# Altium footprint library ultrasounic.PcbLib: 41 footprints (part 1 of 3)
Each footprint in its own frame and in the unit in brackets; x right, y up, seen from the top. Pads: shape width x height; smd on the part's side, far side on the other; paste and mask are expansions set on the pad; w line width, h text height; cw(c..) or ccw(c..) is an arc to the next point about the centre after c.
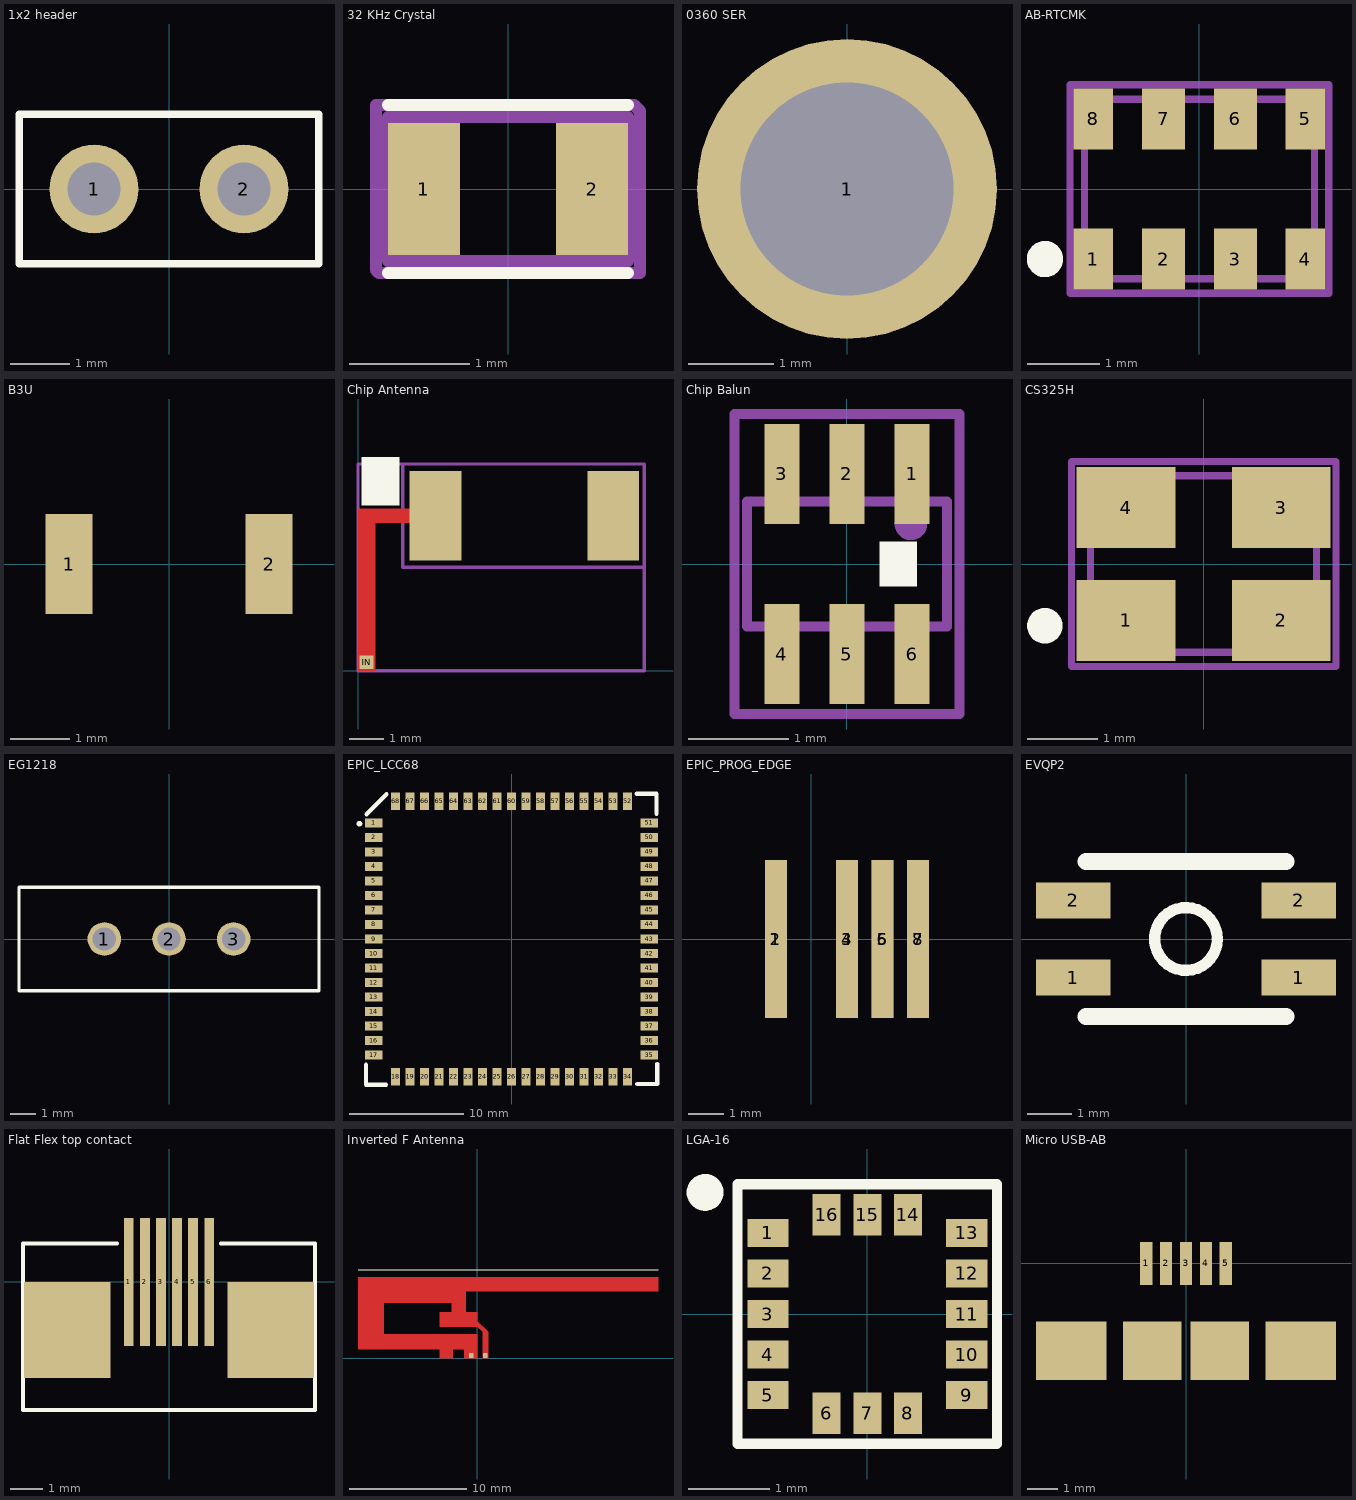
[diagram p0: the footprints below, top view; thin cyan lines are the x and y axes]

## 1x2 header [mm] "1x2 header, 100 mils"
pads (2):
  round 1.5 hole 0.9: 1(-1.27,0) 2(1.27,0)
Top Overlay:
  lines w0.127: -2.54,-1.27 -2.54,1.27 2.54,1.27 2.54,-1.27 -2.54,-1.27
3D body: height 2.54, standoff 0, extent -2.53,-1.26 2.53,1.26
3D body: height 8.38, standoff -1.52, extent -1.575,-0.305 -0.965,0.305
3D body: height 8.38, standoff -1.52, extent 0.965,-0.305 1.575,0.305

## 32 KHz Crystal [mm]
pads (2):
  rect 0.6x1.1 smd: 1(-0.7,0) 2(0.7,0)
Top Overlay:
  lines w0.1: -1,-0.7 1,-0.7 ; -1,0.7 1,0.7
DesignatorTOP:
  text ".Designator" at -3.05,-0.2 h0.6
Mechanical 13:
  lines w0.1: -1,-0.6 1,-0.6 1,0.6 -1,0.6 -1,-0.6
Mechanical 15:
  lines w0.1: -1.1,-0.675 -1.075,-0.7 1.1,-0.7 1.1,0.65 1.05,0.7 -1.1,0.7 -1.1,-0.675
3D body: height 0.6, standoff 0, extent -1,-0.6 1,0.6

## 0360 SER [mm] "PIN RECEPTACLES"
pads (1):
  round 3.5 hole 2.49: 1(0,0)

## AB-RTCMK [mm] "Abracon TCXO"
pads (8):
  rect 0.55x0.85 smd mask-20: 1(-1.475,-0.975) 4(1.475,-0.975) 5(1.475,0.975) 8(-1.475,0.975)
  rect 0.6x0.85 smd mask-20: 2(-0.5,-0.975) 3(0.5,-0.975) 6(0.5,0.975) 7(-0.5,0.975)
Top Overlay:
  circle w0.254: c-2.15,-0.975 r0.125
DesignatorTOP:
  text ".Designator" at -3.1,-0.25 h0.6
Mechanical 13:
  lines w0.1: -1.6,-1.25 1.6,-1.25 1.6,1.25 -1.6,1.25 -1.6,-1.25
Mechanical 15:
  lines w0.1: -1.8,-1.45 1.8,-1.45 1.8,1.45 -1.8,1.45 -1.8,-1.45
3D body: height 1, standoff 0, extent -1.6,-1.25 1.6,1.25

## B3U [mm] "Ultra-small tactile switch"
pads (2):
  rect 0.8x1.7 smd: 1(-1.7,0) 2(1.7,0)
3D body: height 1.6, standoff 1.2, extent -0.744,-0.749 0.75,0.748
3D body: height 1.2, standoff 0, extent -1.5,-1.25 1.5,1.25

## Chip Antenna [mm] "FR05-S1-N-0-102"
pads (3):
  rect 0.4x0.4 smd mask-10: IN(0.25,0.25)
  rect 1.5x2.6 smd: ""(2.25,4.5) ""(7.4,4.5)
Top Layer:
  region: 0,0 0,4.7 1.575,4.7 1.575,4.3 0.5,4.3 0.5,0
Top Overlay:
  rectangle: 0.1,4.8 1.2,6.2
DesignatorTOP:
  text ".Designator" at 1.85,4.25 h0.6
Mechanical 13:
  lines w0.1: 1.3,3 8.3,3 8.3,6 1.3,6 1.3,3
Mechanical 15:
  lines w0.1: 0,0 8.3,0 8.3,0.625 8.3,6 0,6 0,0
3D body: height 2, standoff 0, extent 1.3,3 8.3,6

## Chip Balun [mm] "Chip Balun 2.4 GHz"
pads (6):
  rect 0.35x1 smd: 1(0.65,0.9) 2(0,0.9) 3(-0.65,0.9) 4(-0.65,-0.9) 5(0,-0.9) 6(0.65,-0.9)
Top Overlay:
  rectangle: 0.325,-0.225 0.7,0.225
DesignatorTOP:
  text ".Designator" at -3.075,-0.125 h0.6
Mechanical 13:
  circle w0.254: c0.64,0.4 r0.035
  lines w0.1: -1,-0.625 1,-0.625 1,0.625 -1,0.625 -1,-0.625
Mechanical 15:
  lines w0.1: -1.125,-1.5 1.125,-1.5 1.125,1.5 -1.125,1.5 -1.125,-1.5
3D body: height 0.7, standoff 0, extent -1,-0.625 1,0.625

## CS325H [mm] "CS325H Crystals"
pads (4):
  rect 1.4x1.15 smd: 1(-1.1,-0.8) 2(1.1,-0.8) 3(1.1,0.8) 4(-1.1,0.8)
Top Overlay:
  circle w0.254: c-2.25,-0.875 r0.125
DesignatorTOP:
  text ".Designator" at -3.05,-0.175 h0.6
Mechanical 13:
  lines w0.1: -1.6,-1.25 1.6,-1.25 1.6,1.25 -1.6,1.25 -1.6,-1.25
Mechanical 15:
  lines w0.1: -1.875,-1.45 1.875,-1.45 1.875,1.45 -1.875,1.45 -1.875,-1.45
3D body: height 0.55, standoff 0, extent -1.6,-1.25 1.6,1.25

## EG1218 [mm] "Switch 3 position"
pads (3):
  round 1.3 hole 0.9: 1(-2.5,0) 2(0,0) 3(2.5,0)
Top Overlay:
  lines w0.127: -5.8,-2 -5.8,2 5.8,2 5.8,-2 -5.8,-2
3D body: height 5.4, standoff 0, extent -5.8,-2 5.8,2
3D body: height 7.4, standoff 5.4, extent -2.125,-1 -0.125,1

## EPIC_LCC68 [mil]
pads (68):
  rect 60x30 smd: 1(-475,400) 2(-475,350) 3(-475,300) 4(-475,250) 5(-475,200) 6(-475,150) 7(-475,100) 8(-475,50) 9(-475,0) 10(-475,-50) 11(-475,-100) 12(-475,-150) 13(-475,-200) 14(-475,-250) 15(-475,-300) 16(-475,-350) 17(-475,-400)
  rect 30x59.84 smd: 18(-400,-475) 19(-350,-475) 20(-300,-475) 21(-250,-475) 22(-200,-475) 23(-150,-475) 24(-100,-475) 25(-50,-475) 26(0,-475) 27(50,-475) 28(100,-475) 29(150,-475) 30(200,-475) 31(250,-475) 32(300,-475) 33(350,-475) 34(400,-475) 52(400,475) 53(350,475) 54(300,475) 55(250,475) 56(200,475) 57(150,475) 58(100,475) 59(50,475) 60(0,475) 61(-50,475) 62(-100,475) 63(-150,475) 64(-200,475) 65(-250,475) 66(-300,475) 67(-350,475) 68(-400,475)
  rect 59.84x30 smd: 35(475,-400) 36(475,-350) 37(475,-300) 38(475,-250) 39(475,-200) 40(475,-150) 41(475,-100) 42(475,-50) 43(475,0) 44(475,50) 45(475,100) 46(475,150) 47(475,200) 48(475,250) 49(475,300) 50(475,350) 51(475,400)
Top Overlay:
  circle w10: c-524.61,397.64 r4.92
  lines w15: -501.97,-433.07 -501.97,-501.97 -433.07,-501.97 ; -500,430.12 -431.1,499.02 ; 431.1,500.98 500,500.98 500,432.09 ; 433.07,-500 501.97,-500 501.97,-431.1
3D body: height 118.11, standoff 0, extent -447.83,-447.83 447.83,452.76

## EPIC_PROG_EDGE [mm] "EPIC Programming edge"
pads (8):
  rect 0.61x4.445 smd: 1(-1,0) 3(1,0) 5(2,0) 7(3,0)
  rect 0.61x4.445 smd far side: 2(-1,0) 4(1,0) 6(2,0) 8(3,0)

## EVQP2 [mm] "EVQP2 Switch"
pads (4):
  rect 1.68x0.81 smd: 1(-2.54,-0.87) 1(2.54,-0.87) 2(-2.54,0.87) 2(2.54,0.87)
Top Overlay:
  circle w0.254: c0,0 r0.707
  lines w0.381: -2.25,-1.75 2.25,-1.75 ; -2.25,1.75 2.25,1.75
3D body: height 4, standoff 0, extent -0.992,-0.998 1,0.998
3D body: height 3, standoff 0, extent -2.25,-1.75 2.25,1.75

## Flat Flex top contact [mm]
pads (8):
  rect 0.3x4 smd: 1(-1.25,0) 2(-0.75,0) 3(-0.25,0) 4(0.25,0) 5(0.75,0) 6(1.25,0)
  rect 2.7x3 smd: ""(-3.18,-1.5) ""(3.18,-1.5)
Top Overlay:
  lines w0.127: -1.625,1.2 -4.55,1.2 -4.55,-4 4.55,-4 4.55,1.2 1.625,1.2

## Inverted F Antenna [mm]
pads (2):
  rect 0.4x0.4 smd mask-20: GND(-0.525,0.225) SIG(0.675,0.225)
Top Layer:
  region: 0,0 0,2.03 -8,2.03 -8,4.7 -2.2,4.7 -2.2,3.9 -3.2,3.9 -3.2,2.69 0,2.69 0.45,2.24 0.45,0 0.91,0 0.91,2.23 0,3.14 0,3.9 -1,3.9 -1,5.7 15.4,5.7 15.4,6.91 -10.18,6.91 -10.18,0.74 -3.2,0.74 -3.2,0 -2.1,0 -2.1,0.74 -1.1,0.74 -1.1,0
Top Overlay:
  lines w0.1: -10.18,7.52 15.4,7.52

## LGA-16 [mm]
pads (16):
  rect 0.51x0.345 smd mask+0.1: 1(-1.225,1) 2(-1.225,0.5) 3(-1.225,0) 4(-1.225,-0.5) 5(-1.225,-1) 9(1.225,-1) 10(1.225,-0.5) 11(1.225,0) 12(1.225,0.5) 13(1.225,1)
  rect 0.345x0.51 smd mask+0.1: 6(-0.5,-1.225) 7(0,-1.225) 8(0.5,-1.225) 14(0.5,1.225) 15(0,1.225) 16(-0.5,1.225)
Top Overlay:
  circle w0.254: c-2,1.5 r0.1
  lines w0.127: -1.6,-1.6 -1.6,1.6 1.6,1.6 1.6,-1.6 -1.6,-1.6
3D body: height 1, standoff 0, extent -1.5,-1.5 1.5,1.5

## Micro USB-AB [mm] "Micro USB-AB"
pads (9):
  rect 0.4x1.4 smd: 1(-1.3,0) 2(-0.65,0) 3(0,0) 4(0.65,0) 5(1.3,0)
  rect 2.3x1.9 smd: ""(-3.75,-2.85) ""(3.75,-2.85)
  rect 1.9x1.9 smd: ""(-1.1,-2.85) ""(1.1,-2.85)